# EAGLE library part AR0134CS-ILCC48 (library Sightline)
AR0134CS-1LCC48-10x10 1/3-inch 1.2 Mp CMOS digital image sensor with an active-pixel array of 1280 (H) × 960 (V) Specifications Manufacturer: On Semiconductor Manufacturer Part Number: AR0134CSSM00SPCA0 Operating Temperature Range(C): -30 - 70 Supply Voltage: I/O: 1.8 or 2.8V Digital: 1.8V Analog: 2.8V HiSPi: 0.4V Body Size(mm): 10 x 10 ARO134CS DATASHEET <https://www.onsemi.com/pub/Collateral/AR0134CS-D.PDF> Created by: Kimball S. Davis kimball4@pdx.edu <mailto: kimball4@pdx.edu> 22 January 2019 Version 001
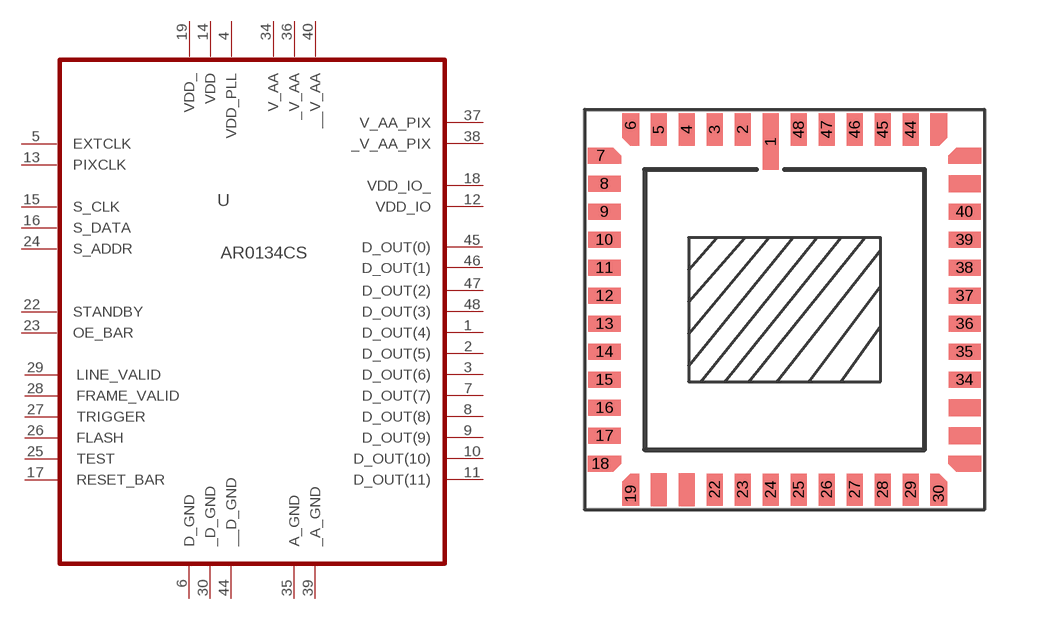
[diagram p1: symbol with the pads of ILCC48; footprint ILCC48]

Designator prefix U

## AR0134CS-ILCC48 (DESCRIPTION: 1/3-inch 1.2 Mp CMOS digital image sensor with an active-pixel array of 1280 (H) × 960 (V); MANF: On Semiconductor; MANF#: AR0134CSSM00SPCA0)  [ILCC48]
1  D_OUT(4)
2  D_OUT(5)
3  D_OUT(6)
4  VDD_PLL
5  EXTCLK
6  D_GND
7  D_OUT(7)
8  D_OUT(8)
9  D_OUT(9)
10  D_OUT(10)
11  D_OUT(11)
12  VDD_IO
13  PIXCLK
14  VDD
15  S_CLK
16  S_DATA
17  RESET_BAR
18  VDD_IO_
19  VDD_
22  STANDBY
23  OE_BAR
24  S_ADDR
25  TEST
26  FLASH
27  TRIGGER
28  FRAME_VALID
29  LINE_VALID
30  _D_GND
34  V_AA
35  A_GND
36  _V_AA
37  V_AA_PIX
38  _V_AA_PIX
39  _A_GND
40  __V_AA
44  __D_GND
45  D_OUT(0)
46  D_OUT(1)
47  D_OUT(2)
48  D_OUT(3)

## Footprint ILCC48 (pad centres in mm)
smd 0.4 x 1.4: 1 -0.35,4.2
smd 0.4 x 0.8: 2 -1.05,4.5; 3 -1.75,4.5; 4 -2.45,4.5; 5 -3.15,4.5; 22 -1.75,-4.5; 23 -1.05,-4.5; 24 -0.35,-4.5; 25 0.35,-4.5; 26 1.05,-4.5; 27 1.75,-4.5; 28 2.45,-4.5; 29 3.15,-4.5; 44 3.15,4.5; 45 2.45,4.5; 46 1.75,4.5; 47 1.05,4.5; 48 0.35,4.5
smd 0.4 x 0.6: 6 -3.85,4.6; 19 -3.85,-4.6; 30 3.85,-4.6
smd 0.6 x 0.4: 7 -4.6,3.85; 18 -4.6,-3.85
smd 0.8 x 0.4: 8 -4.5,3.15; 9 -4.5,2.45; 10 -4.5,1.75; 11 -4.5,1.05; 12 -4.5,0.35; 13 -4.5,-0.35; 14 -4.5,-1.05; 15 -4.5,-1.75; 16 -4.5,-2.45; 17 -4.5,-3.15; 34 4.5,-1.75; 35 4.5,-1.05; 36 4.5,-0.35; 37 4.5,0.35; 38 4.5,1.05; 39 4.5,1.75; 40 4.5,2.45